# Altium footprint library diplomPCB.pcblib: 19 footprints (part 1 of 2)
Each footprint in its own frame and in the unit in brackets; x right, y up, seen from the top. Pads: shape width x height; smd on the part's side, far side on the other; paste and mask are expansions set on the pad; w line width, h text height; cw(c..) or ccw(c..) is an arc to the next point about the centre after c.
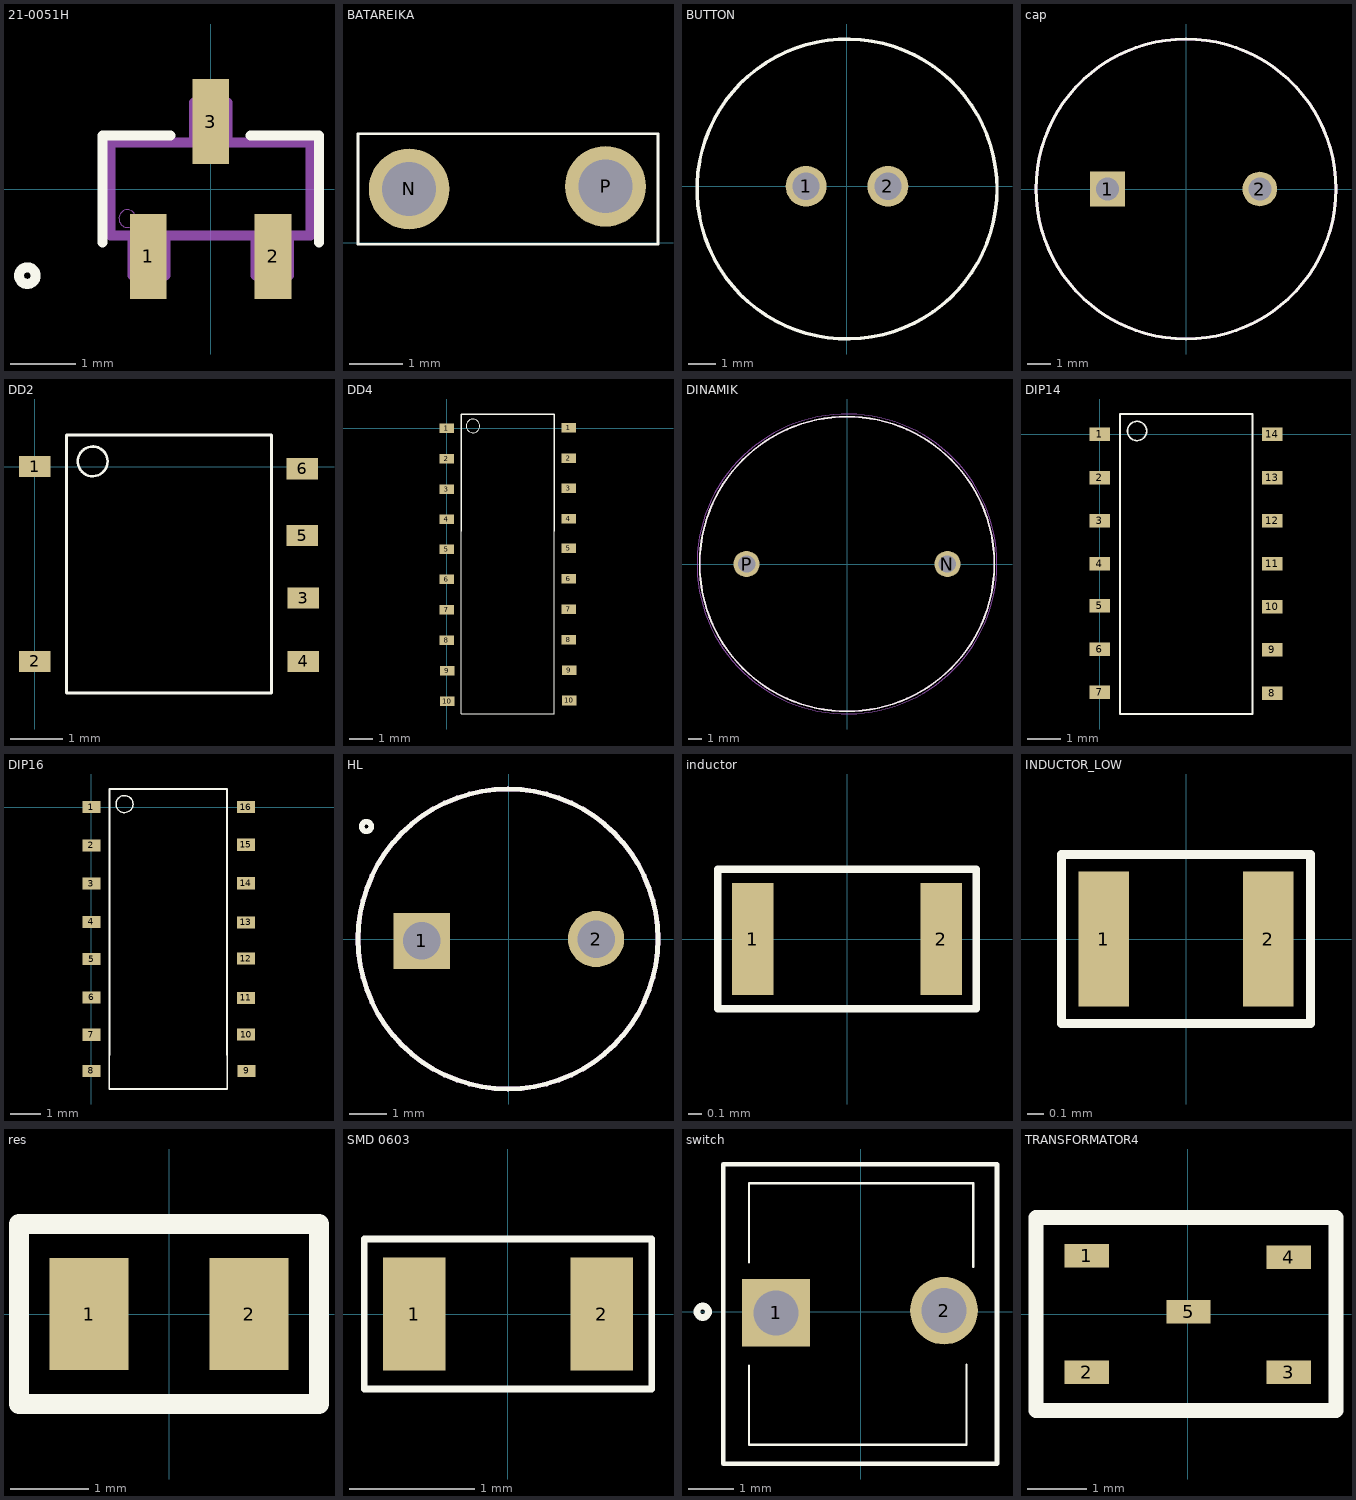
[diagram p0: the footprints below, top view; thin cyan lines are the x and y axes]

## 21-0051H [mil]
pads (3):
  rect 22x51 smd: 1(-37.4,-40.5) 2(37.4,-40.5) 3(0,40.5)
Top Overlay:
  lines w6: -65,-32 -65,32 -24,32 ; 24,32 65,32 65,-32 ; -115,-52 ccw(c-110,-52) -105,-52 ccw(c-110,-52) -115,-52
Mechanical 13:
  lines w0: -55,-18.03 cw(c-50,-17.5) -45,-16.97 ; -55,-18 ccw(c-50,-18) -45,-18
  lines w6: -60,-28 60,-28 60,28 -60,28 -60,-28 ; -47,-52 -47,-28 -27,-28 -27,-52 -47,-52 ; -10,28 10,28 10,52 -10,52 -10,28 ; 27,-52 27,-28 47,-28 47,-52 27,-52

## BATAREIKA [mm]
pads (2):
  round 1.5 hole 1: N(15.725,1) P(19.375,1.05)
Top Overlay:
  lines w0.05: 14.775,-0.025 19.6,-0.025 20.35,-0.025 20.35,0.487 20.35,1.512 20.35,2.025 19.6,2.025 14.775,2.025 14.775,-0.025

## BUTTON [mm]
pads (2):
  round 1.5 hole 1: 1(-1.5,0) 2(1.5,0)
Top Overlay:
  circle w0.127: c0,-0.1 r5.5

## cap [mm]
pads (2):
  rect 1.5x1.5 hole 1: 1(-3.4,0)
  round 1.5 hole 1: 2(3.2,0)
Top Overlay:
  circle w0.127: c0,0 r6.5
Mechanical 13:
  circle w0.127: c0,0 r6.5

## DD2 [mm]
pads (6):
  rect 0.6x0.4 smd: 1(0,0) 2(0,-3.7) 3(5.1,-2.5) 4(5.1,-3.7) 5(5.08,-1.31) 6(5.08,-0.04)
Top Overlay:
  circle w0.05: c1.1,0.1 r0.283
  lines w0.054: 0.6,-4.3 4.5,-4.3 4.5,0.6 0.6,0.6 0.6,-4.3 ; 0.6,-4.3 0.6,-4.3

## DD4 [mm]
pads (20):
  rect 0.6x0.4 smd: 1(0,0) 1(5.1,0.025) 2(0,-1.27) 2(5.1,-1.245) 3(0,-2.54) 3(5.1,-2.515) 4(0,-3.81) 4(5.1,-3.785) 5(0.005,-5.05) 5(5.105,-5.025) 6(0.005,-6.32) 6(5.105,-6.295) 7(0.005,-7.59) 7(5.105,-7.565) 8(0.005,-8.86) 8(5.105,-8.835) 9(0.03,-10.14) 9(5.13,-10.115) 10(0.03,-11.41) 10(5.13,-11.385)
Top Overlay:
  circle w0.05: c1.1,0.1 r0.283
  lines w0.05: 4.5,-4.3 4.5,-11.95 0.6,-11.95 0.6,-4.3 ; 0.6,-4.3 0.6,-4.3
  lines w0.054: 4.5,-4.3 4.5,0.6 0.6,0.6 0.6,-4.3 ; 0.6,-4.3 0.6,-4.3

## DINAMIK [mm]
height 12.7
pads (2):
  round 1.95 hole 1.3: N(7.5,0) P(-7.5,0)
Top Overlay:
  circle w0.127: c0,0 r11
Mechanical 13:
  circle w0.127: c0,0 r11
Mechanical 15:
  circle w0.05: c0,0 r11.2

## DIP14 [mm]
pads (14):
  rect 0.6x0.4 smd: 1(0,0) 2(0,-1.27) 3(0,-2.54) 4(0,-3.81) 5(0.005,-5.045) 6(0.005,-6.315) 7(0.005,-7.585) 8(5.08,-7.61) 9(5.08,-6.34) 10(5.08,-5.07) 11(5.08,-3.81) 12(5.08,-2.54) 13(5.08,-1.27) 14(5.08,0)
Top Overlay:
  circle w0.05: c1.1,0.1 r0.283
  lines w0.054: 0.6,-8.225 0.6,0.6 4.5,0.6 4.5,-8.225 0.6,-8.225

## DIP16 [mm]
pads (16):
  rect 0.6x0.4 smd: 1(0,0) 2(0,-1.27) 3(0,-2.54) 4(0,-3.81) 5(0.005,-5.045) 6(0.005,-6.315) 7(0,-7.55) 8(0,-8.75) 9(5.15,-8.75) 10(5.13,-7.545) 11(5.125,-6.325) 12(5.125,-5.025) 13(5.125,-3.825) 14(5.125,-2.525) 15(5.125,-1.25) 16(5.125,0)
Top Overlay:
  circle w0.05: c1.1,0.1 r0.283
  lines w0.05: 0.6,-9.35 0.6,-8.225 ; 4.5,-9.35 4.5,-8.225 ; 0.6,-8.225 0.6,-8.225 ; 4.5,-8.225 4.5,-8.225
  lines w0.054: 0.6,-9.35 1.575,-9.35 3.525,-9.35 4.5,-9.35 ; 0.6,-8.225 0.6,0.6 4.5,0.6 4.5,-8.225

## HL [mm]
pads (2):
  rect 1.5x1.5 hole 1: 1(-2.325,-0.05)
  round 1.5 hole 1: 2(2.325,0)
Top Overlay:
  circle w0.127: c-0.025,0 r4
  lines w0.152: -3.927,3 cw(c-3.8,3) -3.673,3 cw(c-3.8,3) -3.927,3
Mechanical 13:
  circle w0.127: c-0.025,0 r4

## inductor [mm]
pads (2):
  rect 0.3x0.8 smd: 1(-0.675,0) 2(0.675,0)
Top Overlay:
  lines w0.054: -0.925,-0.5 0.925,-0.5 0.925,0.5 -0.925,0.5 -0.925,-0.45 -0.925,-0.5

## INDUCTOR_LOW [mm]
pads (2):
  rect 0.3x0.8 smd: 1(-0.487,0) 2(0.487,0)
Top Overlay:
  lines w0.054: -0.737,-0.5 -0.737,-0.45 -0.737,0.5 0.737,0.5 0.737,-0.5 -0.737,-0.5

## res [mm]
pads (2):
  rect 1x1.42 smd: 1(-1.016,0) 2(1.016,0)
Top Overlay:
  lines w0.254: -1.905,-1.143 1.905,-1.143 1.905,1.143 -1.905,1.143 -1.905,-1.143

## SMD 0603 [mm]
pads (2):
  rect 0.5x0.9 smd: 1(-0.75,0) 2(0.75,0)
Top Overlay:
  lines w0.054: -1.15,-0.6 -1.15,0.6 1.15,0.6 1.15,-0.6 -1.15,-0.6

## switch [mm]
pads (2):
  rect 1.5x1.5 hole 1: 1(-1.875,-0.025)
  round 1.5 hole 1: 2(1.85,0.025)
Top Overlay:
  lines w0.05: -2.475,-1.2 -2.475,-2.95 2.35,-2.95 2.35,-1.175 ; -2.475,1.1 -2.475,2.85 2.35,2.85 2.5,2.85 2.5,1
  lines w0.1: -3.05,-3.375 3.025,-3.375 3.025,3.275 -3.05,3.275 -3.05,2.425 -3.05,-3.375
  lines w0.152: -3.627,0 ccw(c-3.5,0) -3.373,0 ccw(c-3.5,0) -3.627,0

## TRANSFORMATOR4 [mm]
height 1.3
pads (5):
  rect 0.75x0.4 smd: 1(-1.712,0.988) 2(-1.712,-0.987) 3(1.713,-0.987) 4(1.713,0.963) 5(0.013,0.038)
Top Overlay:
  lines w0.254: 2.513,-1.637 -2.575,-1.637 -2.575,1.638 2.513,1.638 2.513,-0.075 2.513,-1.1 2.513,-1.612
Mechanical 13:
  lines w0.127: 1.225,-1.612 -2.575,-1.612 -2.575,1.588 1.225,1.588 ; 2.5,-1.587 2.5,-0.787 2.5,0.813 2.5,1.613